# EAGLE library part LCA710 (library LCA710)
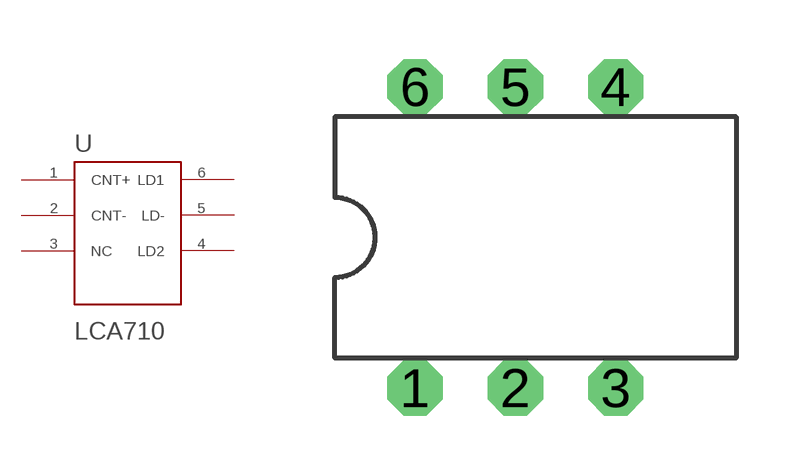
[diagram p0: symbol with the pads of DIL-06; footprint DIL-06]

Designator prefix U

## LCA710  [DIL-06]
1  CNT+  pas
2  CNT-  pas
3  NC  pas
4  LD2  pas
5  LD-  pas
6  LD1  pas

## Footprint DIL-06 (pad centres in mm)
drill 0.813 pad 1.397 octagon: 1 1.27,0; 2 3.81,0; 3 6.35,0; 4 6.35,7.62; 5 3.81,7.62; 6 1.27,7.62